# Altium footprint library Inductors.PcbLib: 1 footprints
Each footprint in its own frame and in the unit in brackets; x right, y up, seen from the top. Pads: shape width x height; smd on the part's side, far side on the other; paste and mask are expansions set on the pad; w line width, h text height; cw(c..) or ccw(c..) is an arc to the next point about the centre after c.
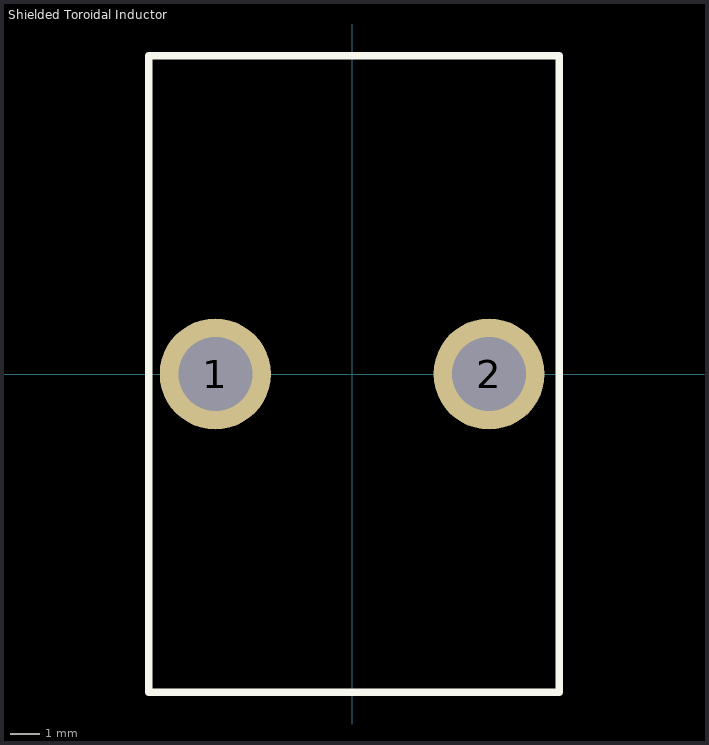
[diagram p0: the footprint, top view; thin cyan lines are the x and y axes]

## Shielded Toroidal Inductor [mil] "Vertical, 370 mil lead spacing, 53 mil lead diameter"
height 860
pads (2):
  round 150 hole 100: 1(-185,0) 2(185,0)
Top Overlay:
  lines w10: -275,-430 280,-430 280,430 -275,430 -275,-430